# Altium footprint library DIOM6959X25N.PcbLib: 1 footprints
Each footprint in its own frame and in the unit in brackets; x right, y up, seen from the top. Pads: shape width x height; smd on the part's side, far side on the other; paste and mask are expansions set on the pad; w line width, h text height; cw(c..) or ccw(c..) is an arc to the next point about the centre after c.
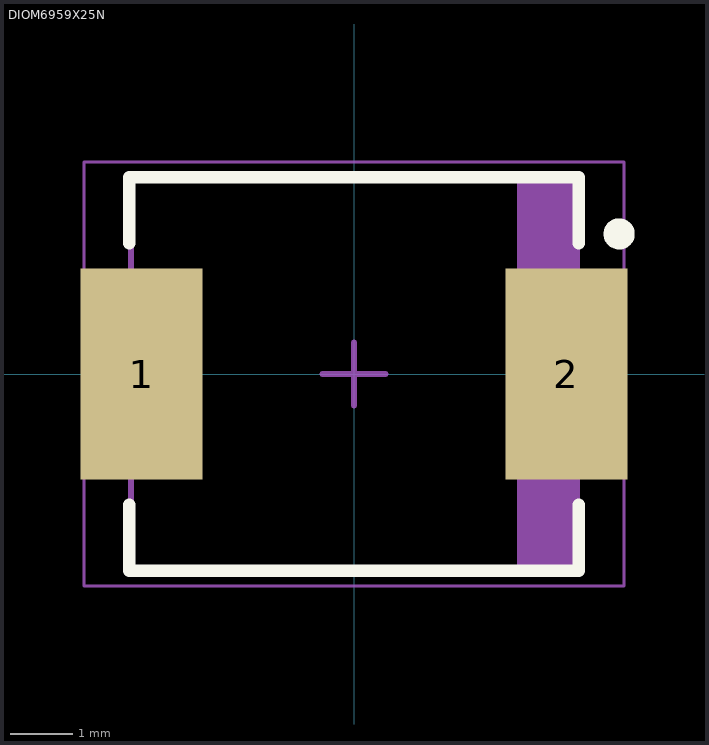
[diagram p0: the footprint, top view; thin cyan lines are the x and y axes]

## DIOM6959X25N [mm] "Molded Diode, 2-Leads, Body 6.88x5.90mm, IPC Medium Density"
height 2.45
pads (2):
  rect 1.96x3.39 smd: 1(-3.405,0) 2(3.405,0)
Top Overlay:
  circle w0.25: c4.25,2.245 r0.125
  lines w0.2: -3.6,-2.095 -3.6,-3.15 3.6,-3.15 3.6,-2.095 ; -3.6,2.095 -3.6,3.15 3.6,3.15 3.6,2.095
Mechanical 13:
  rectangle: 2.613,-3.125 3.575,3.125
  lines w0.1: -3.575,-3.125 3.575,-3.125 3.575,3.125 -3.575,3.125 -3.575,-3.125
Mechanical 15:
  lines w0.05: -4.325,-3.4 4.325,-3.4 4.325,3.4 -4.325,3.4 -4.325,-3.4
  lines w0.1: -0.5,0 0.5,0 ; 0,-0.5 0,0.5
3D body "DIOM6959X25N.step": height 2.45, standoff 0, extent -3.795,-3.125 3.795,3.125